# Altium schematic symbol library Solderbridge_Shorted.Schlib: 1 symbol
Pins are listed as number, name and electrical type; pins without a type are passive.

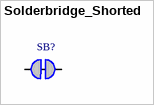
[diagram p0: symbol Solderbridge_Shorted]

## Solderbridge_Shorted
designator SB?  (net tie)
pins: 1, 2